# EAGLE library part STM32F429IGT6 (library dawidkulpa_dev)
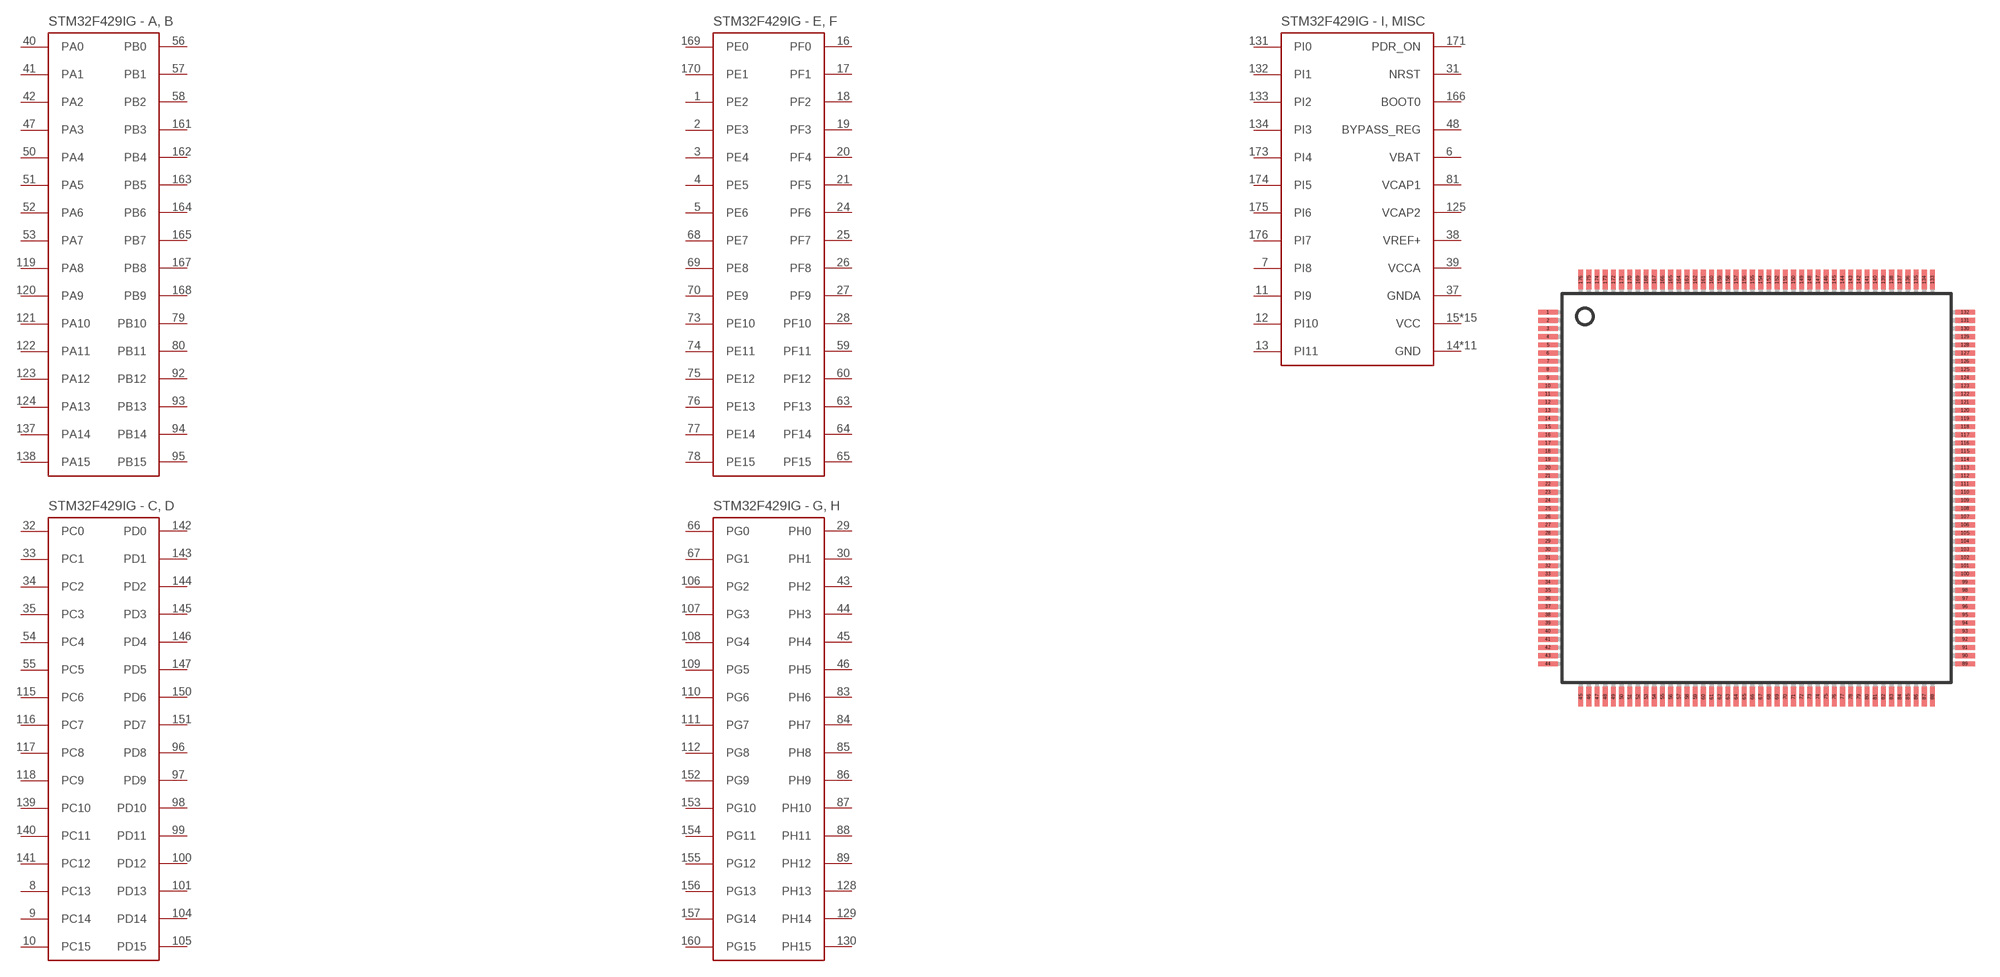
[diagram p31: symbol with the pads of LQFP176; footprint LQFP176]

Designator prefix -

## STM32F429IGT6  [LQFP176]
1  PE2
2  PE3
3  PE4
4  PE5
5  PE6
6  VBAT
7  PI8
8  PC13
9  PC14
10  PC15
11  PI9
12  PI10
13  PI11
14  GND
15  VCC
16  PF0
17  PF1
18  PF2
19  PF3
20  PF4
21  PF5
22  GND
23  VCC
24  PF6
25  PF7
26  PF8
27  PF9
28  PF10
29  PH0
30  PH1
31  NRST
32  PC0
33  PC1
34  PC2
35  PC3
36  VCC
37  GNDA
38  VREF+
39  VCCA
40  PA0
41  PA1
42  PA2
43  PH2
44  PH3
45  PH4
46  PH5
47  PA3
48  BYPASS_REG
49  VCC
50  PA4
51  PA5
52  PA6
53  PA7
54  PC4
55  PC5
56  PB0
57  PB1
58  PB2
59  PF11
60  PF12
61  GND
62  VCC
63  PF13
64  PF14
65  PF15
66  PG0
67  PG1
68  PE7
69  PE8
70  PE9
71  GND
72  VCC
73  PE10
74  PE11
75  PE12
76  PE13
77  PE14
78  PE15
79  PB10
80  PB11
81  VCAP1
82  VCC
83  PH6
84  PH7
85  PH8
86  PH9
87  PH10
88  PH11
89  PH12
90  GND
91  VCC
92  PB12
93  PB13
94  PB14
95  PB15
96  PD8
97  PD9
98  PD10
99  PD11
100  PD12
101  PD13
102  GND
103  VCC
104  PD14
105  PD15
106  PG2
107  PG3
108  PG4
109  PG5
110  PG6
111  PG7
112  PG8
113  GND
114  VCC
115  PC6
116  PC7
117  PC8
118  PC9
119  PA8
120  PA9
121  PA10
122  PA11
123  PA12
124  PA13
125  VCAP2
126  GND
127  VCC
128  PH13
129  PH14
130  PH15
131  PI0
132  PI1
133  PI2
134  PI3
135  GND
136  VCC
137  PA14
138  PA15
139  PC10
140  PC11
141  PC12
142  PD0
143  PD1
144  PD2
145  PD3
146  PD4
147  PD5
148  GND
149  VCC
150  PD6
151  PD7
152  PG9
153  PG10
154  PG11
155  PG12
156  PG13
157  PG14
158  GND
159  VCC
160  PG15
161  PB3
162  PB4
163  PB5
164  PB6
165  PB7
166  BOOT0
167  PB8
168  PB9
169  PE0
170  PE1
171  PDR_ON
172  VCC
173  PI4
174  PI5
175  PI6
176  PI7

## Footprint LQFP176 (pad centres in mm)
176-Lead Metric Thin Plastic Quad Flatpack Source: www.analog.com .. 144127970ADSP_BF531_2_3_a.pdf
smd 1.2 x 0.3: 1 -12.75,10.75; 2 -12.75,10.25; 3 -12.75,9.75; 4 -12.75,9.25; 5 -12.75,8.75; 6 -12.75,8.25; 7 -12.75,7.75; 8 -12.75,7.25; 9 -12.75,6.75; 10 -12.75,6.25; 11 -12.75,5.75; 12 -12.75,5.25; 13 -12.75,4.75; 14 -12.75,4.25; 15 -12.75,3.75; 16 -12.75,3.25; 17 -12.75,2.75; 18 -12.75,2.25; 19 -12.75,1.75; 20 -12.75,1.25; 21 -12.75,0.75; 22 -12.75,0.25; 23 -12.75,-0.25; 24 -12.75,-0.75; 25 -12.75,-1.25; 26 -12.75,-1.75; 27 -12.75,-2.25; 28 -12.75,-2.75; 29 -12.75,-3.25; 30 -12.75,-3.75; 31 -12.75,-4.25; 32 -12.75,-4.75; 33 -12.75,-5.25; 34 -12.75,-5.75; 35 -12.75,-6.25; 36 -12.75,-6.75; 37 -12.75,-7.25; 38 -12.75,-7.75; 39 -12.75,-8.25; 40 -12.75,-8.75; 41 -12.75,-9.25; 42 -12.75,-9.75; 43 -12.75,-10.25; 44 -12.75,-10.75; 89 12.75,-10.75; 90 12.75,-10.25; 91 12.75,-9.75; 92 12.75,-9.25; 93 12.75,-8.75; 94 12.75,-8.25; 95 12.75,-7.75; 96 12.75,-7.25; 97 12.75,-6.75; 98 12.75,-6.25; 99 12.75,-5.75; 100 12.75,-5.25; 101 12.75,-4.75; 102 12.75,-4.25; 103 12.75,-3.75; 104 12.75,-3.25; 105 12.75,-2.75; 106 12.75,-2.25; 107 12.75,-1.75; 108 12.75,-1.25; 109 12.75,-0.75; 110 12.75,-0.25; 111 12.75,0.25; 112 12.75,0.75; 113 12.75,1.25; 114 12.75,1.75; 115 12.75,2.25; 116 12.75,2.75; 117 12.75,3.25; 118 12.75,3.75; 119 12.75,4.25; 120 12.75,4.75; 121 12.75,5.25; 122 12.75,5.75; 123 12.75,6.25; 124 12.75,6.75; 125 12.75,7.25; 126 12.75,7.75; 127 12.75,8.25; 128 12.75,8.75; 129 12.75,9.25; 130 12.75,9.75; 131 12.75,10.25; 132 12.75,10.75
smd 0.3 x 1.2: 45 -10.75,-12.75; 46 -10.25,-12.75; 47 -9.75,-12.75; 48 -9.25,-12.75; 49 -8.75,-12.75; 50 -8.25,-12.75; 51 -7.75,-12.75; 52 -7.25,-12.75; 53 -6.75,-12.75; 54 -6.25,-12.75; 55 -5.75,-12.75; 56 -5.25,-12.75; 57 -4.75,-12.75; 58 -4.25,-12.75; 59 -3.75,-12.75; 60 -3.25,-12.75; 61 -2.75,-12.75; 62 -2.25,-12.75; 63 -1.75,-12.75; 64 -1.25,-12.75; 65 -0.75,-12.75; 66 -0.25,-12.75; 67 0.25,-12.75; 68 0.75,-12.75; 69 1.25,-12.75; 70 1.75,-12.75; 71 2.25,-12.75; 72 2.75,-12.75; 73 3.25,-12.75; 74 3.75,-12.75; 75 4.25,-12.75; 76 4.75,-12.75; 77 5.25,-12.75; 78 5.75,-12.75; 79 6.25,-12.75; 80 6.75,-12.75; 81 7.25,-12.75; 82 7.75,-12.75; 83 8.25,-12.75; 84 8.75,-12.75; 85 9.25,-12.75; 86 9.75,-12.75; 87 10.25,-12.75; 88 10.75,-12.75; 133 10.75,12.75; 134 10.25,12.75; 135 9.75,12.75; 136 9.25,12.75; 137 8.75,12.75; 138 8.25,12.75; 139 7.75,12.75; 140 7.25,12.75; 141 6.75,12.75; 142 6.25,12.75; 143 5.75,12.75; 144 5.25,12.75; 145 4.75,12.75; 146 4.25,12.75; 147 3.75,12.75; 148 3.25,12.75; 149 2.75,12.75; 150 2.25,12.75; 151 1.75,12.75; 152 1.25,12.75; 153 0.75,12.75; 154 0.25,12.75; 155 -0.25,12.75; 156 -0.75,12.75; 157 -1.25,12.75; 158 -1.75,12.75; 159 -2.25,12.75; 160 -2.75,12.75; 161 -3.25,12.75; 162 -3.75,12.75; 163 -4.25,12.75; 164 -4.75,12.75; 165 -5.25,12.75; 166 -5.75,12.75; 167 -6.25,12.75; 168 -6.75,12.75; 169 -7.25,12.75; 170 -7.75,12.75; 171 -8.25,12.75; 172 -8.75,12.75; 173 -9.25,12.75; 174 -9.75,12.75; 175 -10.25,12.75; 176 -10.75,12.75